# Altium footprint library Summits7Beta_LIB_Integrados_PCB.PcbLib: 9 footprints
Each footprint in its own frame and in the unit in brackets; x right, y up, seen from the top. Pads: shape width x height; smd on the part's side, far side on the other; paste and mask are expansions set on the pad; w line width, h text height; cw(c..) or ccw(c..) is an arc to the next point about the centre after c.
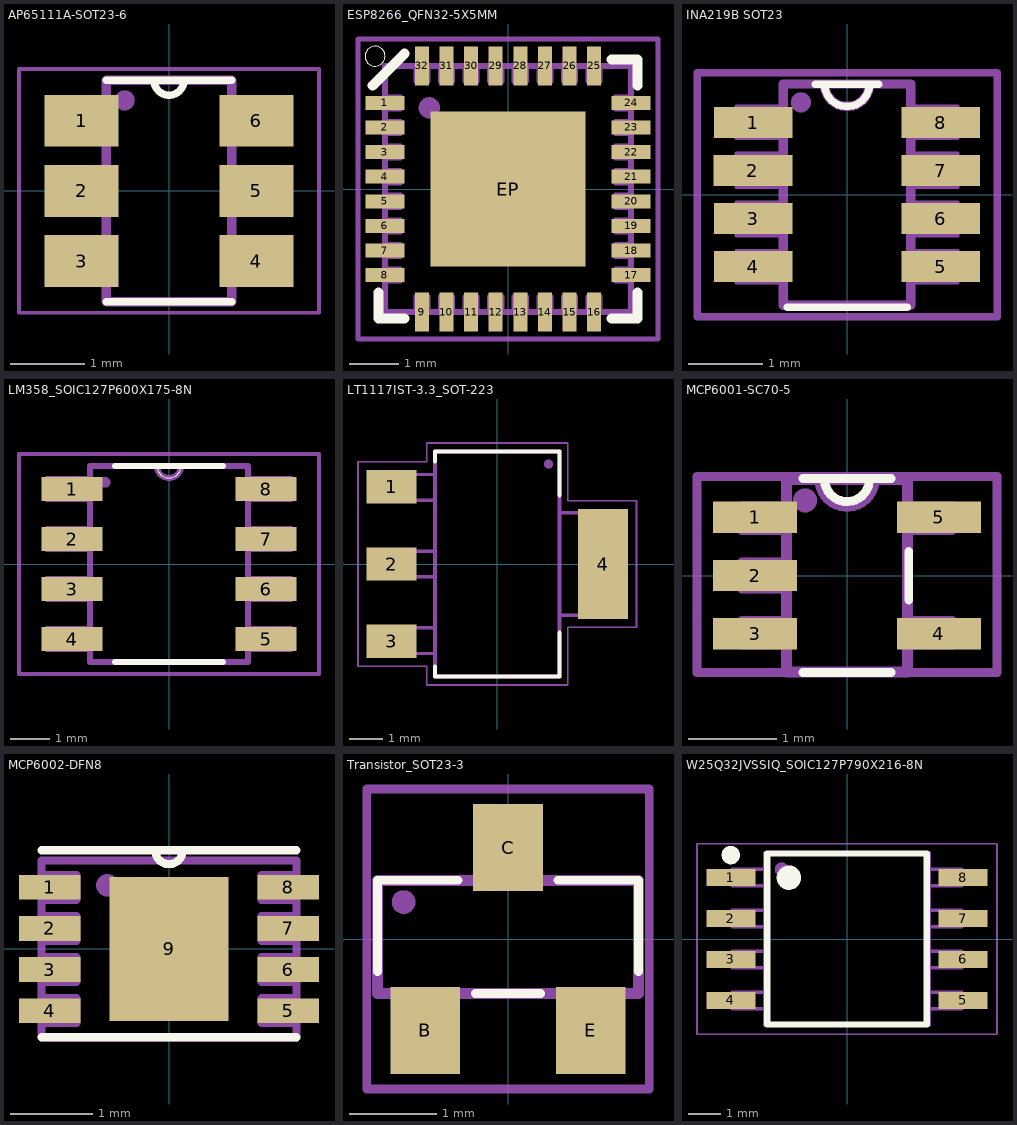
[diagram p0: the footprints below, top view; thin cyan lines are the x and y axes]

## AP65111A-SOT23-6 [mm] "Footprint Buck"
pads (6):
  rect 1x0.7 smd: 1(-1.185,0.95) 2(-1.185,0) 3(-1.185,-0.95) 4(1.185,-0.95) 5(1.185,0) 6(1.185,0.95)
Top Overlay:
  lines w0.102: -0.85,-1.5 0.85,-1.5 ; -0.85,1.5 0.85,1.5 ; -0.203,1.5 ccw(c0,1.5) 0.203,1.5
Mechanical 13:
  circle w0.2: c-0.6,1.227 r0.035
  lines w0.1: -0.85,-1.225 -1.525,-1.225 -1.525,-0.7 -0.85,-0.7 ; -0.85,-0.275 -1.525,-0.275 -1.525,0.25 -0.85,0.25 ; -0.85,0.7 -1.525,0.7 -1.525,1.225 -0.85,1.225 ; 0.85,-1.225 1.525,-1.225 1.525,-0.7 0.85,-0.7 ; 0.85,-0.25 1.525,-0.25 1.525,0.275 0.85,0.275 ; 0.85,0.675 1.525,0.675 1.525,1.2 0.85,1.2
  lines w0.127: -0.85,-1.5 0.85,-1.5 0.85,1.5 -0.85,1.5 -0.85,-1.5
  text "'.Designator'" at -0.2,0.452 h0.5
Mechanical 15:
  lines w0.05: -2.032,-1.651 -2.032,1.651 2.032,1.651 2.032,-1.651 -2.032,-1.651
3D body "AP65111A-SOT23-6.step": height 1.45, standoff 0, extent -1.4,-1.45 1.4,1.45

## ESP8266_QFN32-5X5MM [mm] "Footprint del ESP8266EX"
pads (33):
  rect 0.8x0.285 smd mask+0.065: 1(-2.5,1.75) 2(-2.5,1.25) 3(-2.5,0.75) 4(-2.5,0.25) 5(-2.5,-0.25) 6(-2.5,-0.75) 7(-2.5,-1.25) 8(-2.5,-1.75) 17(2.5,-1.75) 18(2.5,-1.25) 19(2.5,-0.75) 20(2.5,-0.25) 21(2.5,0.25) 22(2.5,0.75) 23(2.5,1.25) 24(2.5,1.75)
  rect 0.285x0.8 smd mask+0.065: 9(-1.75,-2.5) 10(-1.25,-2.5) 11(-0.75,-2.5) 12(-0.25,-2.5) 13(0.25,-2.5) 14(0.75,-2.5) 15(1.25,-2.5) 16(1.75,-2.5) 25(1.75,2.5) 26(1.25,2.5) 27(0.75,2.5) 28(0.25,2.5) 29(-0.25,2.5) 30(-0.75,2.5) 31(-1.25,2.5) 32(-1.75,2.5)
  rect 3.15x3.15 smd paste-3: EP(0,0)
Top Overlay:
  circle w0: c-2.7,2.7 r0.203
  lines w0.203: -2.754,2.1 -2.1,2.754 ; -2.627,-2.1 -2.627,-2.627 -2.1,-2.627 ; 2.1,-2.627 2.627,-2.627 2.627,-2.1 ; 2.1,2.627 2.627,2.627 2.627,2.1
Top Paste:
  region: -0.15,0.15 -1.45,0.15 -1.45,1.45 -0.15,1.45
  region: 1.45,0.15 0.15,0.15 0.15,1.45 1.45,1.45
  region: -0.15,-1.45 -1.45,-1.45 -1.45,-0.15 -0.15,-0.15
  region: 1.45,-1.45 0.15,-1.45 0.15,-0.15 1.45,-0.15
Mechanical 13:
  circle w0.25: c-1.6,1.65 r0.09
  lines w0.1: -2.5,-1.875 -2.18,-1.875 -2.18,-1.625 -2.5,-1.625 ; -2.5,-1.375 -2.18,-1.375 -2.18,-1.125 -2.5,-1.125 ; -2.5,-0.875 -2.18,-0.875 -2.18,-0.625 -2.5,-0.625 ; -2.5,-0.375 -2.18,-0.375 -2.18,-0.125 -2.5,-0.125 ; -2.5,0.125 -2.18,0.125 -2.18,0.375 -2.5,0.375 ; -2.5,0.625 -2.18,0.625 -2.18,0.875 -2.5,0.875 ; -2.5,1.125 -2.18,1.125 -2.18,1.375 -2.5,1.375 ; -2.5,1.625 -2.18,1.625 -2.18,1.875 -2.5,1.875 ; -1.875,-2.5 -1.875,-2.18 -1.625,-2.18 -1.625,-2.5 ; -1.875,2.5 -1.875,2.18 -1.625,2.18 -1.625,2.5 ; -1.375,-2.5 -1.375,-2.18 -1.125,-2.18 -1.125,-2.5 ; -1.375,2.5 -1.375,2.18 -1.125,2.18 -1.125,2.5 ; -0.875,-2.5 -0.875,-2.18 -0.625,-2.18 -0.625,-2.5 ; -0.875,2.5 -0.875,2.18 -0.625,2.18 -0.625,2.5 ; -0.375,-2.5 -0.375,-2.18 -0.125,-2.18 -0.125,-2.5 ; -0.375,2.5 -0.375,2.18 -0.125,2.18 -0.125,2.5 ; 0.125,-2.5 0.125,-2.18 0.375,-2.18 0.375,-2.5 ; 0.125,2.5 0.125,2.18 0.375,2.18 0.375,2.5 ; 0.625,-2.5 0.625,-2.18 0.875,-2.18 0.875,-2.5 ; 0.625,2.5 0.625,2.18 0.875,2.18 0.875,2.5 ; 1.125,-2.5 1.125,-2.18 1.375,-2.18 1.375,-2.5 ; 1.125,2.5 1.125,2.18 1.375,2.18 1.375,2.5 ; 1.625,-2.5 1.625,-2.18 1.875,-2.18 1.875,-2.5 ; 1.625,2.5 1.625,2.18 1.875,2.18 1.875,2.5 ; 2.5,-1.875 2.18,-1.875 2.18,-1.625 2.5,-1.625 ; 2.5,-1.375 2.18,-1.375 2.18,-1.125 2.5,-1.125 ; 2.5,-0.875 2.18,-0.875 2.18,-0.625 2.5,-0.625 ; 2.5,-0.375 2.18,-0.375 2.18,-0.125 2.5,-0.125 ; 2.5,0.125 2.18,0.125 2.18,0.375 2.5,0.375 ; 2.5,0.625 2.18,0.625 2.18,0.875 2.5,0.875 ; 2.5,1.125 2.18,1.125 2.18,1.375 2.5,1.375 ; 2.5,1.625 2.18,1.625 2.18,1.875 2.5,1.875
  lines w0.127: -2.5,-2.5 -2.5,2.5 2.5,2.5 2.5,-2.5 -2.5,-2.5
  text "'.Designator'" at -1.125,-0.2 h0.5
Mechanical 15:
  lines w0.102: -3.048,-3.048 -3.048,3.048 3.048,3.048 3.048,-3.048 -3.048,-3.048
3D body: height 1.55, standoff 0, extent 0,0 0,0
3D body "ESP8266EX.STEP": height 0.91, standoff 0.01, extent -2.5,-2.5 2.5,2.5

## INA219B SOT23 [mm] "Current Monitor"
pads (8):
  rect 1.067x0.42 smd mask+0.09: 1(-1.27,0.975) 2(-1.275,0.325) 3(-1.27,-0.325) 4(-1.27,-0.975) 5(1.27,-0.975) 6(1.27,-0.325) 7(1.27,0.325) 8(1.27,0.975)
Top Overlay:
  lines w0.102: -0.813,-1.524 0.813,-1.524 ; -0.432,1.499 -0.305,1.499 ; 0.432,1.499 0.305,1.499 ; -0.305,1.499 ccw(c0,1.499) 0.305,1.499 ; -0.305,1.499 0.305,1.499
Mechanical 13:
  circle w0.2: c-0.625,1.25 r0.035
  lines w0.05: -0.864,-1.194 -1.499,-1.194 -1.499,-0.762 -0.864,-0.762 ; -0.864,-0.559 -1.499,-0.559 -1.499,-0.102 -0.864,-0.102 ; -0.864,0.102 -1.499,0.102 -1.499,0.559 -0.864,0.559 ; -0.864,0.762 -1.499,0.762 -1.499,1.194 -0.864,1.194 ; 0.864,-1.194 1.499,-1.194 1.499,-0.762 0.864,-0.762 ; 0.864,-0.559 1.499,-0.559 1.499,-0.102 0.864,-0.102 ; 0.864,0.102 1.499,0.102 1.499,0.559 0.864,0.559 ; 0.864,0.762 1.499,0.762 1.499,1.194 0.864,1.194
  lines w0.127: -0.305,1.499 ccw(c0,1.499) 0.305,1.499 ; -0.305,1.499 -0.864,1.499 -0.864,1.194 -0.864,0.762 -0.864,0.559 -0.864,0.102 -0.864,-0.102 -0.864,-0.559 -0.864,-0.762 -0.864,-1.194 -0.864,-1.499 0.864,-1.499 0.864,-1.194 0.864,-0.762 0.864,-0.559 0.864,-0.102 0.864,0.102 0.864,0.559 0.864,0.762 0.864,1.194 0.864,1.499 0.305,1.499 ; -0.305,1.499 0.305,1.499
  text "'.Designator'" at -0.225,0.475 h0.5
Mechanical 15:
  lines w0.102: -2.032,-1.651 2.032,-1.651 2.032,1.651 -2.032,1.651 -2.032,-1.651
3D body "INA219_SOT23.STEP": height 1.2, standoff 0, extent -1.4,-1.47 1.4,1.47

## LM358_SOIC127P600X175-8N [mm] "Operacional Amplifier LM358"
pads (8):
  rect 1.55x0.6 smd: 1(-2.464,1.905) 2(-2.464,0.635) 3(-2.464,-0.635) 4(-2.464,-1.905) 5(2.464,-1.905) 6(2.464,-0.635) 7(2.464,0.635) 8(2.464,1.905)
Top Overlay:
  lines w0: -0.305,2.489 ccw(c0,2.489) 0.305,2.489
  lines w0.152: -1.372,-2.489 1.372,-2.489 ; -1.372,2.489 -0.305,2.489 0.305,2.489 1.372,2.489
Mechanical 13:
  circle w0.2: c-1.625,2.075 r0.035
  lines w0.152: -0.305,2.489 ccw(c0,2.489) 0.305,2.489 ; -0.305,2.489 0.305,2.489 ; -0.305,2.489 -2.007,2.489 -2.007,-2.489 2.007,-2.489 2.007,2.489 0.305,2.489 ; -3.099,-2.159 -3.099,-1.651 -2.007,-1.651 -2.007,-2.159 -3.099,-2.159 ; -3.099,-0.889 -3.099,-0.381 -2.007,-0.381 -2.007,-0.889 -3.099,-0.889 ; -3.099,0.381 -3.099,0.889 -2.007,0.889 -2.007,0.381 -3.099,0.381 ; -3.099,1.651 -3.099,2.159 -2.007,2.159 -2.007,1.651 -3.099,1.651 ; 2.007,-2.159 2.007,-1.651 3.099,-1.651 3.099,-2.159 2.007,-2.159 ; 2.007,-0.889 2.007,-0.381 3.099,-0.381 3.099,-0.889 2.007,-0.889 ; 2.007,0.381 2.007,0.889 3.099,0.889 3.099,0.381 2.007,0.381 ; 2.007,1.651 2.007,2.159 3.099,2.159 3.099,1.651 2.007,1.651
  text "'.Designator'" at -0.275,1.175 h0.5
Mechanical 15:
  lines w0.102: -3.81,-2.794 -3.81,2.794 3.81,2.794 3.81,-2.794 -3.81,-2.794
3D body "Tl072CD_SOIC127P600X175-8N.step": height 1.77, standoff 0.01, extent -3.1,-2.5 3.1,2.5

## LT1117IST-3.3_SOT-223 [mil] "Regulador 3.3V"
pads (4):
  rect 59x39 smd: 1(-124,90.5) 2(-124,0) 3(-124,-90.5)
  rect 59x129 smd: 4(124,0)
Top Overlay:
  lines w5: -73,-120.08 -73,-131.89 73,-131.89 73,-80.71 ; -73,120.08 -73,131.89 73,131.89 73,80.71
Mechanical 13:
  circle w7.87: c60.04,117.13 r1.39
  lines w4: -75,-75 -115,-75 -115,-105 -73,-105 ; -73,-15 -115,-15 -115,15 -73,15 ; -73,75 -115,75 -115,105 -73,105 ; 73,-60 115,-60 115,60 73,60
  lines w5: -73,-132 73,-132 73,132 -73,132 -73,-132
  text "'.Designator'" at -7.87,52.17 h19.68
Mechanical 15:
  lines w1.97: -163.34,-119.84 -82.84,-119.84 -82.84,-141.84 82.84,-141.84 82.84,-74.34 163.34,-74.34 163.34,74.34 82.84,74.34 82.84,141.84 -82.84,141.84 -82.84,119.84 -163.34,119.84 -163.34,-119.84
3D body "LT1171ST-3V3_SOT223.STEP": height 66.64, standoff 0.5, extent -137.01,-127.94 137.01,127.96

## MCP6001-SC70-5 [mil] "Footprint OPAMP"
pads (5):
  rect 37.4x14 smd: 1(-41,26) 2(-41,0) 3(-41,-26) 4(41,-26) 5(41,26)
Top Overlay:
  lines w4: -19.68,-43.31 19.68,-43.31 ; -19.68,43.31 19.68,43.31 ; -9.98,42.42 ccw(c0,42.97) 10,43.26 ; 27.56,-10.83 27.56,10.83
Mechanical 13:
  circle w7.87: c-18.7,33.53 r1.39
  lines w3.94: -27,-31 -47,-31 -47,-20 -27,-20 ; -27,-6 -47,-6 -47,6 -27,6 ; -27,20 -47,20 -47,31 -27,31 ; 27,-31 47,-31 47,-20 27,-20 ; 27,20 47,20 47,31 27,31
  lines w5: -12,43 ccw(c0,43) 12,43 ; -12,43 -27,43 -27,31 -27,20 -27,6 -27,-6 -27,-20 -27,-31 -27,-43 27,-43 27,-31 27,-20 27,20 27,31 27,43 12,43 ; -12,43 12,43
  text "'.Designator'" at -8.86,19.68 h19.68
Mechanical 15:
  lines w4: -66.93,-43.31 -66.93,44.29 66.93,44.29 66.93,-43.31 -66.93,-43.31
3D body "OPAMP-SC70-5.step": height 39.87, standoff 0.5, extent -45.28,-41.33 45.27,41.34

## MCP6002-DFN8 [mm]
pads (9):
  rect 0.75x0.3 smd mask+0.07: 1(-1.45,0.75) 2(-1.45,0.25) 3(-1.45,-0.25) 4(-1.45,-0.75) 5(1.45,-0.75) 6(1.45,-0.25) 7(1.45,0.25) 8(1.45,0.75)
  rect 1.45x1.75 smd paste-3: 9(0,0)
Top Overlay:
  lines w0.1: -1.55,-1.075 1.55,-1.075 ; -1.55,1.2 1.55,1.2 ; -0.168,1.2 ccw(c0,1.2) 0.168,1.2
Mechanical 13:
  circle w0.2: c-0.75,0.775 r0.035
  lines w0.1: -1.55,-0.9 -1.125,-0.9 -1.125,-0.6 -1.55,-0.6 ; -1.55,-0.4 -1.125,-0.4 -1.125,-0.1 -1.55,-0.1 ; -1.55,0.1 -1.125,0.1 -1.125,0.4 -1.55,0.4 ; -1.55,0.6 -1.125,0.6 -1.125,0.9 -1.55,0.9 ; 1.55,-0.9 1.125,-0.9 1.125,-0.6 1.55,-0.6 ; 1.55,-0.4 1.125,-0.4 1.125,-0.1 1.55,-0.1 ; 1.55,0.1 1.125,0.1 1.125,0.4 1.55,0.4 ; 1.55,0.6 1.125,0.6 1.125,0.9 1.55,0.9 ; -1.55,-1.075 -1.55,-1.05 -1.55,1.075 1.55,1.075 1.55,-1.075 -1.55,-1.075
  text "'.Designator'" at -0.775,-0.225 h0.5
Mechanical 15:
  lines w0.1: -1.55,-1.075 1.55,-1.075 1.55,1.075 -1.55,1.075 -1.55,-1.05 -1.55,-1.075
3D body "DFN8.step": height 0.81, standoff 0.01, extent -1.55,-1 1.55,1

## Transistor_SOT23-3 [mm] "Transistor NPN"
pads (3):
  rect 0.8x1 smd: B(-0.95,-1.05) C(0,1.05) E(0.95,-1.05)
Top Overlay:
  lines w0.102: -1.5,-0.375 -1.5,0.675 -0.575,0.675 ; -0.375,-0.625 0.375,-0.625 ; 0.575,0.675 1.5,0.675 1.5,-0.375
Mechanical 13:
  circle w0.2: c-1.2,0.425 r0.035
  lines w0.102: -1.2,-0.625 -1.2,-1.25 -0.725,-1.25 -0.725,-0.625 ; -0.225,0.675 -0.225,1.25 0.25,1.25 0.25,0.7 ; 0.725,-0.625 0.725,-1.25 1.2,-1.25 1.2,-0.625
  lines w0.127: -1.5,-0.625 1.5,-0.625 1.5,0.675 -1.5,0.675 -1.5,-0.625
  text "'.Designator'" at -1.025,-0.375 h0.5
Mechanical 15:
  lines w0.102: -1.625,-1.725 1.625,-1.725 1.625,1.725 -1.625,1.725 -1.625,-1.725
3D body "SOT-23_TransistorNPN.step": height 1.11, standoff 0.01, extent -1.5,-1.25 1.5,1.25

## W25Q32JVSSIQ_SOIC127P790X216-8N [mil] "Memoria Flash SOIC8 SS"
pads (8):
  rect 60x21 smd: 1(-141.73,75) 2(-141.73,25) 3(-141.73,-25) 4(-141.73,-75) 5(141.73,-75) 6(141.73,-25) 7(141.73,25) 8(141.73,75)
Top Overlay:
  circle w5: c-141.73,102.36 r3.94
  circle w5: c-137.8,102.36 r3.94
  circle w5: c-141.73,102.36 r8.8
  circle w5: c-70.87,70.87 r3.94
  circle w5: c-70.87,74.8 r3.94
  circle w5: c-70.87,74.8 r5.57
  circle w5: c-70.87,74.8 r8.8
  circle w5: c-70.87,74.8 r12.45
  lines w7.87: -97.44,-104.33 -97.44,104.33 97.44,104.33 97.44,-104.33 -97.44,-104.33
Mechanical 13:
  circle w9.84: c-79.72,85 r3.54
  lines w4: -100,-85 -140,-85 -140,-65 -100,-65 ; -100,-35 -140,-35 -140,-15 -100,-15 ; -100,15 -140,15 -140,35 -100,35 ; -100,65 -140,65 -140,85 -100,85 ; 100,-85 140,-85 140,-65 100,-65 ; 100,-35 140,-35 140,-15 100,-15 ; 100,15 140,15 140,35 100,35 ; 100,65 140,65 140,85 100,85
  lines w5: -100,-105 -100,105 100,105 100,-105 -100,-105
  text "'.Designator'" at -47.24,-5.91 h19.68
Mechanical 15:
  lines w1.97: -183.07,-116.14 -183.07,116.14 183.07,116.14 183.07,-116.14 -183.07,-116.14
3D body "W25Q32JV_SOIC-8-208.STEP": height 85.16, standoff 0.48, extent -161.41,-106.31 161.42,106.31